# Altium integrated library LM7818CT.IntLib: 1 symbol
Pins are listed as number, name and electrical type; pins without a type are passive.

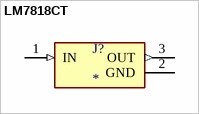
[diagram p0: symbol LM7818CT]

## LM7818CT
designator J?
Linear Voltage Regulator IC Positive Fixed 1 Output 1A TO-220-3; MP: LM7818CT; MF: ON Semiconductor; Check_prices: https://www.snapeda.com/parts/LM7818CT/Onsemi/view-part/?ref=eda; Value: *; Availability: In Stock; Price: None; Package: TO-220-3 ON Semiconductor; SnapEDA_Link: https://www.snapeda.com/parts/LM7818CT/Onsemi/view-part/?ref=snap; Purchase-URL: https://pricing.snapeda.com/search/part/LM7818CT/?ref=eda
footprint TO-220-3
pins: 1 IN (in), 2 GND, 3 OUT (out)